# EAGLE library part MAX9814 (library DD_adafruit)
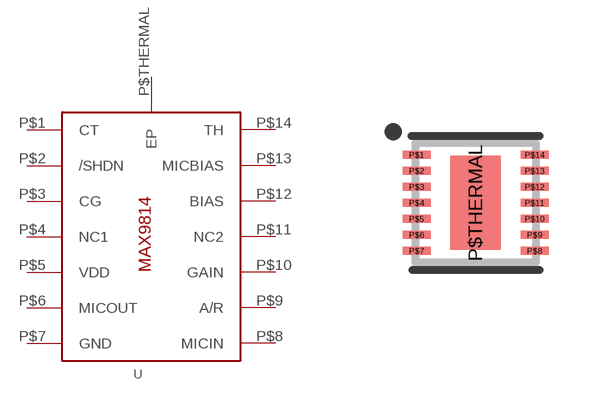
[diagram p39: symbol with the pads of TDFN14_3X3MM; footprint TDFN14_3X3MM]

Designator prefix -

## MAX9814TDFN14  [TDFN14_3X3MM]
P$1  CT
P$2  /SHDN
P$3  CG
P$4  NC1  nc
P$5  VDD
P$6  MICOUT
P$7  GND
P$8  MICIN
P$9  A/R
P$10  GAIN
P$11  NC2  nc
P$12  BIAS
P$13  MICBIAS
P$14  TH
P$THERMAL  EP

## Footprint TDFN14_3X3MM (pad centres in mm)
TDFN 14 3x3x0.75mm Source: http://datasheets.maxim-ic.com/en/ds/MAX98306.pdf Based on recommendtions in: http://www.freescale.com/files/sensors/doc/data_sheet/MAG3110.pdf
smd 0.7 x 0.2: P$1 -1.475,1.2; P$2 -1.475,0.8; P$3 -1.475,0.4; P$4 -1.475,0; P$5 -1.475,-0.4; P$6 -1.475,-0.8; P$7 -1.475,-1.2; P$8 1.475,-1.2; P$9 1.475,-0.8; P$10 1.475,-0.4; P$11 1.475,0; P$12 1.475,0.4; P$13 1.475,0.8; P$14 1.475,1.2
smd 1.27 x 2.35: P$THERMAL 0,0